# Altium schematic symbol library ComponentsLib.SchLib: 116 symbols (part 2 of 2)
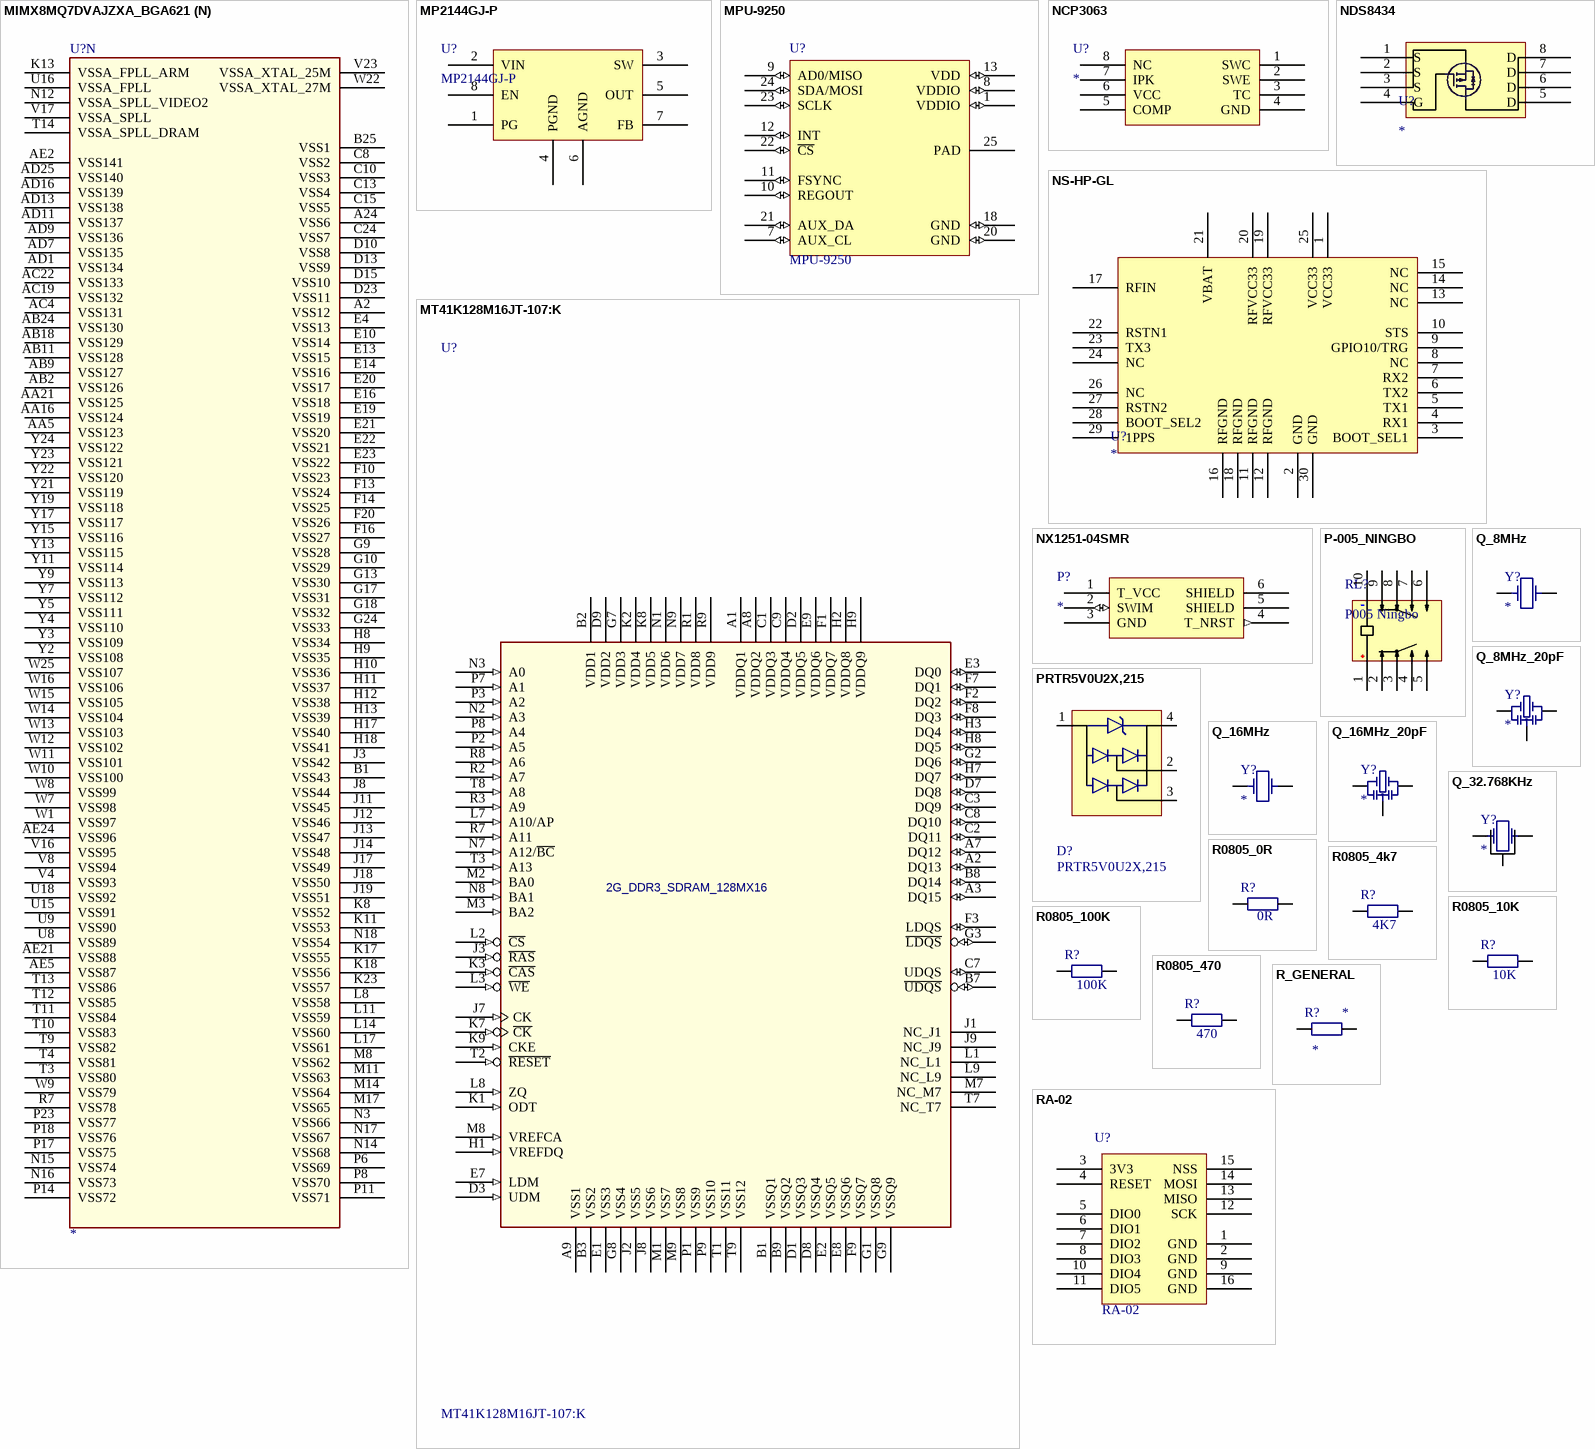
[diagram p12: symbols MIMX8MQ7DVAJZXA_BGA621 to RA-02]

## MP2144GJ-P
designator U?
2A, 5.5V, 1.2MHz, 40μA IQ, COT Synchronous Step Down Switcher; Value: MP2144GJ-P
pins: 1 PG (power), 2 VIN (power), 3 SW (power), 4 PGND (power), 5 OUT (power), 6 AGND (power), 7 FB (power), 8 EN (power)

## MPU-9250
designator U?
SMD Gyroscope/Accelerometer/Magnetometer Sensor; 9-AXIS; MF: TDK; MP: MPU-9250; Package: QFN-24 InvenSense; Price: 7.09 USD; Availability: Good; SnapEDA_Link: https://www.snapeda.com/symbols-footprints/MPU-9250/TDK-Lambda%20Americas%20Inc/view-part/?ref=snap; Value: *
footprint QFN-24/3MM
pins: 1 VDDIO (io), 7 AUX_CL (io), 8 VDDIO (io), 9 AD0/MISO (io), 10 REGOUT (io), 11 FSYNC (io), 12 INT (io), 13 VDD (io), 18 GND (io), 20 GND (io), 21 AUX_DA (io), 22 ~{CS} (io), 23 SCLK (io), 24 SDA/MOSI (io), 25 PAD

## MT41K128M16JT-107:K
designator U?
DRAM Chip DDR3L SDRAM 2G-Bit 128Mx16 1.35V 96-Pin FBGA; MF: Micron Technology; Availability: Unavailable; Package: TFBGA-96 Micron; SnapEDA_Link: https://www.snapeda.com/parts/MT41K128M16JT-107%3AK/Micron%20Technology%20Inc./view-part/?ref=snap; Price: None; MP: MT41K128M16JT-107:K; Value: *
footprint BGA80P96C6X16_800X1400X110_MT41K128M16JT-107:K
pins: A1 VDDQ1 (power), A2 DQ13 (io), A3 DQ15 (io), A7 DQ12 (io), A8 VDDQ2 (power), A9 VSS1 (power), B1 VSSQ1 (power), B2 VDD1 (power), B3 VSS2 (power), B7 ~{UDQS} (io), B8 DQ14 (io), B9 VSSQ2 (power), C1 VDDQ3 (power), C2 DQ11 (io), C3 DQ9 (io), C7 UDQS (io), C8 DQ10 (io), C9 VDDQ4 (power), D1 VSSQ3 (power), D2 VDDQ5 (power), D3 UDM (in), D7 DQ8 (io), D8 VSSQ4 (power), D9 VDD2 (power), E1 VSS3 (power), E2 VSSQ5 (power), E3 DQ0 (io), E7 LDM (in), E8 VSSQ6 (power), E9 VDDQ6 (power), F1 VDDQ7 (power), F2 DQ2 (io), F3 LDQS (io), F7 DQ1 (io), F8 DQ3 (io), F9 VSSQ7 (power), G1 VSSQ8 (power), G2 DQ6 (io), G3 ~{LDQS} (io), G7 VDD3 (power), G8 VSS4 (power), G9 VSSQ9 (power), H1 VREFDQ (in), H2 VDDQ8 (power), H3 DQ4 (io), H7 DQ7 (io), H8 DQ5 (io), H9 VDDQ9 (power), J1 NC_J1, J2 VSS5 (power), J3 ~{RAS} (in), J7 CK (in), J8 VSS6 (power), J9 NC_J9, K1 ODT (in), K2 VDD4 (power), K3 ~{CAS} (in), K7 ~{CK} (in), K8 VDD5 (power), K9 CKE (in), L1 NC_L1, L2 ~{CS} (in), L3 ~{WE} (in), L7 A10/AP (in), L8 ZQ (in), L9 NC_L9, M1 VSS7 (power), M2 BA0 (in), M3 BA2 (in), M7 NC_M7, M8 VREFCA (in), M9 VSS8 (power), N1 VDD6 (power), N2 A3 (in), N3 A0 (in), N7 A12/~{BC} (in), N8 BA1 (in), N9 VDD7 (power), P1 VSS9 (power), P2 A5 (in), P3 A2 (in), P7 A1 (in), P8 A4 (in), P9 VSS10 (power), R1 VDD8 (power), R2 A7 (in), R3 A9 (in), R7 A11 (in), R8 A6 (in), R9 VDD9 (power), T1 VSS11 (power), T2 ~{RESET} (in), T3 A13 (in), T7 NC_T7, T8 A8 (in), T9 VSS12 (power)
text: 2G_DDR3_SDRAM_128MX16

## NCP3063
designator U?
1.5 A, Step-Up/Down/Inverting Switching Regulators
pins: 1 SWC (power) "Internal Darlington switch collector", 2 SWE (power) "Internal Darlington switch emitter", 3 TC (power) "Timing Capacitor", 4 GND (power) "Ground pin for all internal circuits", 5 COMP (power) "Inverting input pin of internal comparator", 6 VCC (power) "Voltage Supply", 7 IPK (power) "Peak Current Sense Input to monitor the voltage drop across an external resistor to limit the peak", 8 NC (power)

## NDS8434
designator U?
footprint SO-8-SOIC127P600X175-8N
pins: 1 S, 2 S, 3 S, 4 G, 5 D, 6 D, 7 D, 8 D

## NS-HP-GL
designator U?
NS-HP-GL / S2525F8-GL-RTK in SMD; Owned: 2
footprint SKYTRAQ-MOD-PCB (SkyTraq module S2525-F8-GL/NS-HP-GL[-5/-10])
footprint SKYTRAQ-MOD-BREAD (SkyTraq module S2525-F8-GL/NS-HP-GL[-5/-10])
footprint SKYTRAQ-MOD-COMB (SkyTraq module S2525-F8-GL/NS-HP-GL[-5/-10])
pins: 1 VCC33, 2 GND, 3 BOOT_SEL1, 4 RX1, 5 TX1, 6 TX2, 7 RX2, 8 NC, 9 GPIO10/TRG, 10 STS, 11 RFGND, 12 RFGND, 13 NC, 14 NC, 15 NC, 16 RFGND, 17 RFIN, 18 RFGND, 19 RFVCC33, 20 RFVCC33, 21 VBAT, 22 RSTN1, 23 TX3, 24 NC, 25 VCC33, 26 NC, 27 RSTN2, 28 BOOT_SEL2, 29 1PPS, 30 GND

## NX1251-04SMR
designator P?
Kosmodrom: http://www.kosmodrom.com.ua/el.php?name=NX1251-04SMR; PriceKosmodromUAH: 5.5
footprint NX1251-04SMR
pins: 1 T_VCC (power), 2 SWIM (io), 3 GND, 4 T_NRST (out), 5 SHIELD, 6 SHIELD

## P-005_NINGBO
designator RL?, comment P005 Ningbo
footprint P-5_NINGBO
pins: 1 +, 2, 3, 4, 5, 6, 7, 8, 9, 10

## PRTR5V0U2X,215
designator D?
PRTR5V0U2X - Ultra low capacitance double rail-to-rail ESD protection diode; MF: Nexperia USA; Owned: 10; Package: SOT-143 Nexperia; Price: None; Availability: Unavailable; MP: PRTR5V0U2X,215; SnapEDA_Link: https://www.snapeda.com/parts/PRTR5V0U2X%2C215/Nexperia%20USA%20Inc./view-part/?ref=snap; Value: *; PriceKosmodromUAH: 3,25; Kosmodrom: http://www.kosmodrom.com.ua/el.php?name=PRTR5V0U2X.215
footprint SOT143B
pins: 1 P$1, 2 P$2, 3 P$3, 4 P$4

## Q_8MHz
designator Y?
Quartz resonator 8MHz; PriceKosmodromUAH: 6; Kosmodrom: http://www.kosmodrom.com.ua/el.php?name=KX-K-8.0-MHz
footprint QSMD12.3x4.5x4.2
pins: 1, 2

## Q_8MHz_20pF
designator Y?
Quartz resonator 8MHz with 20pF caps; PriceKosmodromUAH: 6; Kosmodrom: http://www.kosmodrom.com.ua/el.php?name=KX-K-8.0-MHz
footprint QSMD3.2X1.3X0.9
pins: 1, 2, 3

## Q_16MHz
designator Y?
Quartz resonator 16MHz; PriceKosmodromUAH: 6; Kosmodrom: http://www.kosmodrom.com.ua/el.php?name=KX-K-8.0-MHz
footprint QSMD12.3x4.5x4.2
footprint QTH_HC49_LOW
footprint QSMD6x3.5x1
pins: 1, 2

## Q_16MHz_20pF
designator Y?
Quartz resonator 16MHz with 20pF caps; PriceKosmodromUAH: 6; Kosmodrom: http://www.kosmodrom.com.ua/el.php?name=KX-K-8.0-MHz
footprint QSMD3.2X1.3X0.9
pins: 1, 2, 3

## Q_32.768KHz
designator Y?
Quartz resonator 32.768KHz; PriceKosmodromUAH: 5; Kosmodrom: http://www.kosmodrom.com.ua/el.php?name=KX-38T-32.768-kHz-6pF
footprint HC_3.0x8.0
pins: 1, 2, PAD

## R0805_0R
designator R?, comment 0R
Resistor 0805 0R; Value: 0R
footprint R0805
pins: 1, 2

## R0805_4k7
designator R?, comment 4K7
Resistor 0805 4K7; Value: 4K7
footprint R0805
pins: 1, 2

## R0805_10K
designator R?, comment 10K
Resistor 0805 10K; Value: 10K
footprint R0805
pins: 1, 2

## R0805_100K
designator R?, comment 100K
Resistor 0805 100K; Value: 100K
footprint R0805
pins: 1, 2

## R0805_470
designator R?, comment 470
Resistor 0805 470; Value: 470
footprint R0805
pins: 1, 2

## R_GENERAL
designator R?
Resistor General; Precision: *; Size: *; Resistance: *
footprint R0402
footprint R0402_NOSILK
footprint R0603
footprint R0603_NOSILK
footprint R0805
footprint R1206
footprint R2512
pins: 1, 2

## RA-02
designator U?
RA-02 LoRa modem by Ai-Thinker; Owned: 6; PriceUAH: 127,66; PriceAliexpress: 2,65; OtherUA: https://1wire.com.ua/ra-02-lora-sx1278-433mhz.html; Aliexpress: https://www.aliexpress.com/item/32976593804.html; Value: RA-02
footprint RA-02
pins: 1 GND, 2 GND, 3 3V3, 4 RESET, 5 DIO0, 6 DIO1, 7 DIO2, 8 DIO3, 9 GND, 10 DIO4, 11 DIO5, 12 SCK, 13 MISO, 14 MOSI, 15 NSS, 16 GND

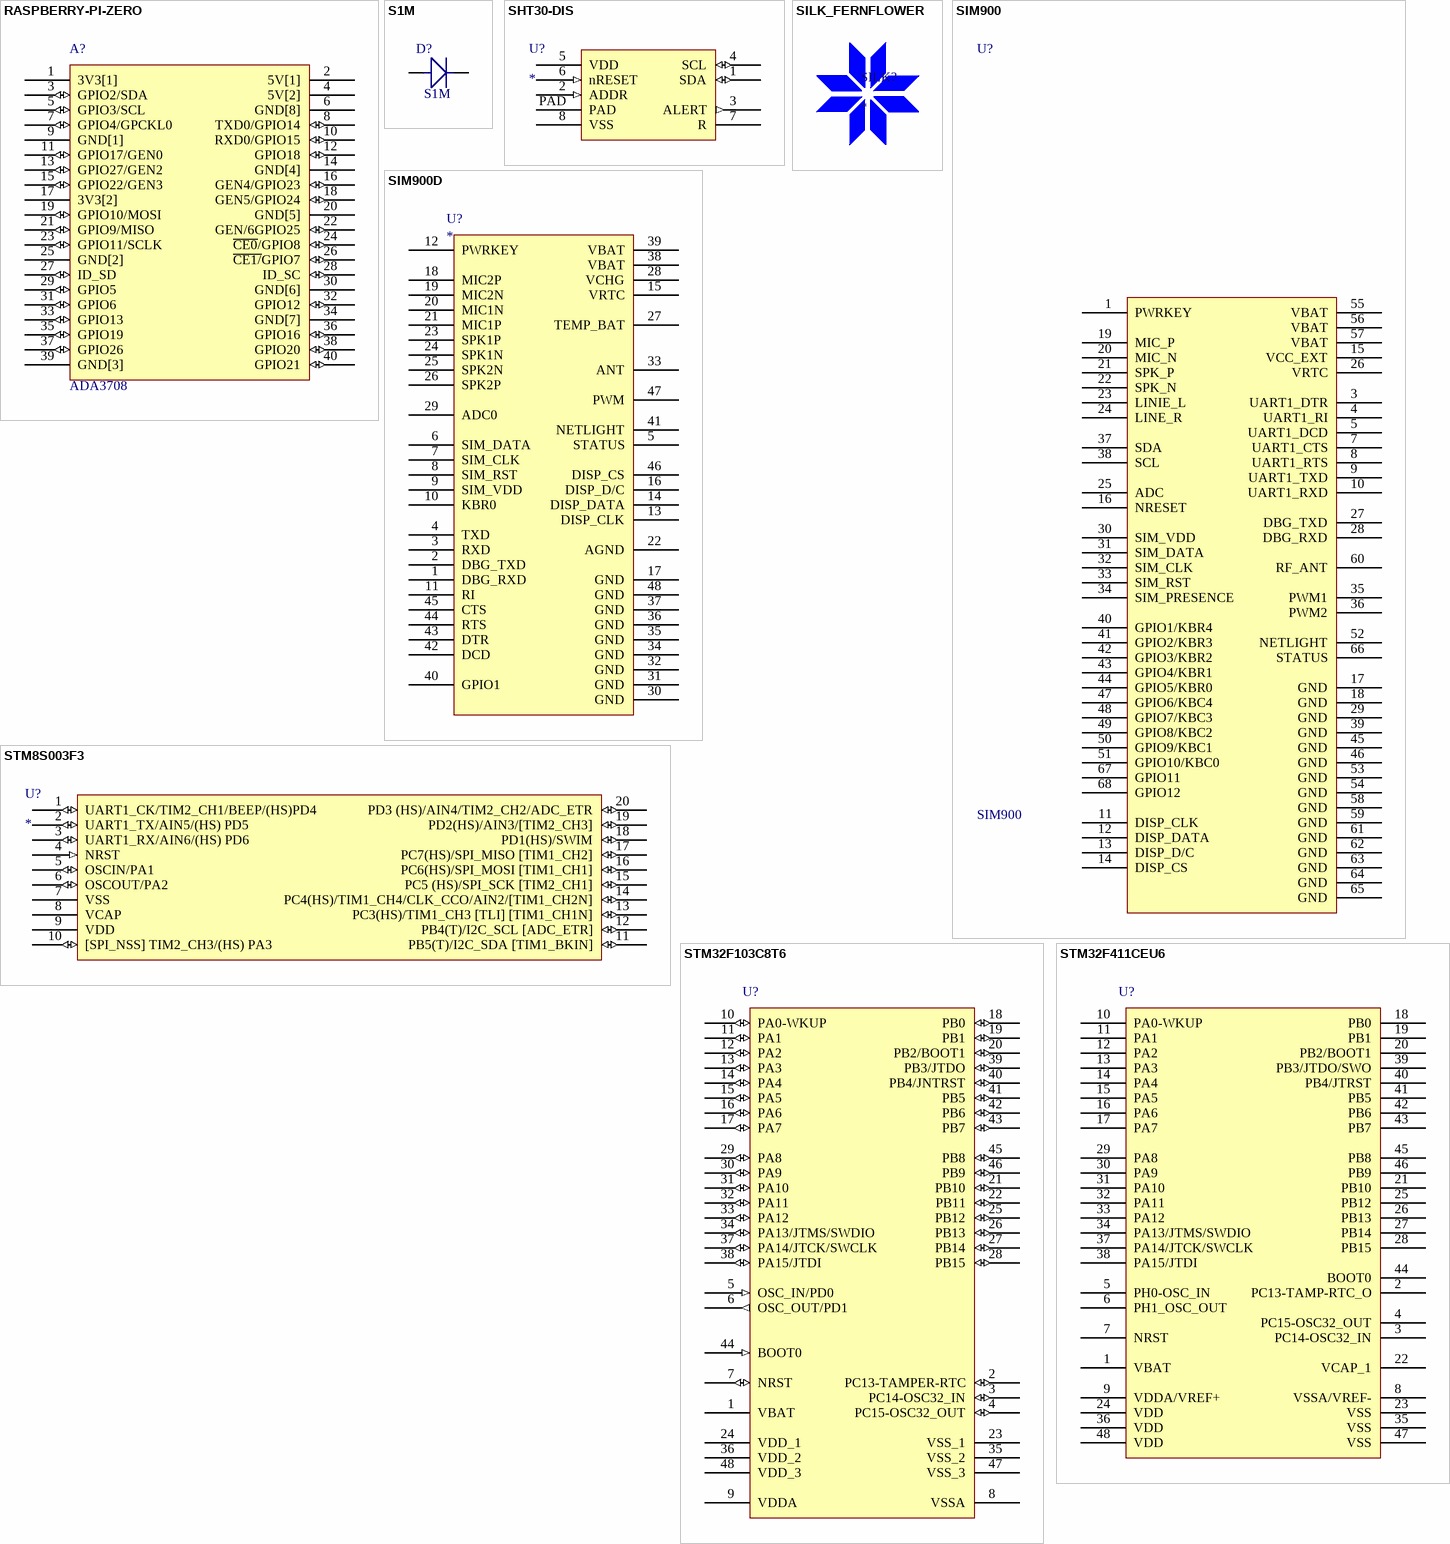
[diagram p10: symbols RASPBERRY-PI-ZERO to STM32F411CEU6]

## RASPBERRY-PI-ZERO
designator A?, comment ADA3708
Raspberry Pi Zero WH _Zero W with Headers_; Availability: Unavailable; Price: None; MP: ADA3708; Package: None; SnapEDA_Link: https://www.snapeda.com/parts/ADA3708/Raspberry%20Pi/view-part/?ref=snap; MF: Raspberry Pi; Value: *
pins: 1 3V3[1] (power), 2 5V[1] (power), 3 GPIO2/SDA (io), 4 5V[2] (power), 5 GPIO3/SCL (io), 6 GND[8] (power), 7 GPIO4/GPCKL0 (io), 8 TXD0/GPIO14 (io), 9 GND[1] (power), 10 RXD0/GPIO15 (io), 11 GPIO17/GEN0 (io), 12 GPIO18 (io), 13 GPIO27/GEN2 (io), 14 GND[4] (power), 15 GPIO22/GEN3 (io), 16 GEN4/GPIO23 (io), 17 3V3[2] (power), 18 GEN5/GPIO24 (io), 19 GPIO10/MOSI (io), 20 GND[5] (power), 21 GPIO9/MISO (io), 22 GEN/6GPIO25 (io), 23 GPIO11/SCLK (io), 24 ~{CE0}/GPIO8 (io), 25 GND[2] (power), 26 ~{CE1/}GPIO7 (io), 27 ID_SD (io), 28 ID_SC (io), 29 GPIO5 (io), 30 GND[6] (power), 31 GPIO6 (io), 32 GPIO12 (io), 33 GPIO13 (io), 34 GND[7] (power), 35 GPIO19 (io), 36 GPIO16 (io), 37 GPIO26 (io), 38 GPIO20 (io), 39 GND[3] (power), 40 GPIO21 (io)

## S1M
designator D?, comment Name: S1M  (hidden comment: General purpuse rectifier diode)
Originally made by Kingtronics; MF: Toshiba; Package: DO-214AC; Price: *; SnapEDA_Link: *; Availability: Good; Value: *; MP: *; PriceRCSUAH: 1; RCS: https://www.rcscomponents.kiev.ua/product/s1m-toshiba_123317.html
footprint DO-214AB
footprint DO-214AC
pins: A POS, C NEG

## SHT30-DIS
designator U?
Temp & Humidity sensor; PriceKosmodromUAH: 75,75; Kosmodrom: http://www.kosmodrom.com.ua/el.php?name=SHT30-DIS-B
footprint SHT3X
pins: 1 SDA (io) "Serial data; input / output", 2 ADDR (in) "Address pin; input; connect to either VDD or VSS, do not leave floating", 3 ALERT (out) "Indicates alarm condition; output; must be left floating if unused", 4 SCL (io) "Serial clock; input / output", 5 VDD (power) "Supply voltage; input", 6 nRESET (in) "Reset pin active low; Input; if not used it is recommended to connect to VDD", 7 R (power) "No electrical function; recommended to connected to VSS", 8 VSS (power) "Ground", PAD (power) "Thermal pad"

## SILK_FERNFLOWER
designator SILK?  (no BOM)
footprint SILK_FERNFLOWER

## SIM900
designator U?
Module: GSM; CSD, GPRS; 2G; 1800MHz, 900MHz; 85.6kbps; I; MF: Simcom; Package: DIP-60 Simcom; Price: None; MP: SIM900; Availability: Unavailable; SnapEDA_Link: https://www.snapeda.com/symbols-footprints/SIM900/Simcom/view-part/?ref=snap; Value: *
footprint SIM-900-QFN100P2400X2400X300-68N
pins: 1 PWRKEY, 3 UART1_DTR, 4 UART1_RI, 5 UART1_DCD, 7 UART1_CTS, 8 UART1_RTS, 9 UART1_TXD, 10 UART1_RXD, 11 DISP_CLK, 12 DISP_DATA, 13 DISP_D/C, 14 DISP_CS, 15 VCC_EXT, 16 NRESET, 17 GND, 18 GND, 19 MIC_P, 20 MIC_N, 21 SPK_P, 22 SPK_N, 23 LINIE_L, 24 LINE_R, 25 ADC, 26 VRTC, 27 DBG_TXD, 28 DBG_RXD, 29 GND, 30 SIM_VDD, 31 SIM_DATA, 32 SIM_CLK, 33 SIM_RST, 34 SIM_PRESENCE, 35 PWM1, 36 PWM2, 37 SDA, 38 SCL, 39 GND, 40 GPIO1/KBR4, 41 GPIO2/KBR3, 42 GPIO3/KBR2, 43 GPIO4/KBR1, 44 GPIO5/KBR0, 45 GND, 46 GND, 47 GPIO6/KBC4, 48 GPIO7/KBC3, 49 GPIO8/KBC2, 50 GPIO9/KBC1, 51 GPIO10/KBC0, 52 NETLIGHT, 53 GND, 54 GND, 55 VBAT, 56 VBAT, 57 VBAT, 58 GND, 59 GND, 60 RF_ANT, 61 GND, 62 GND, 63 GND, 64 GND, 65 GND, 66 STATUS, 67 GPIO11, 68 GPIO12

## SIM900D
designator U?
Module: GSM; CSD, GPRS; 2G; 1800MHz, 900MHz; 85.6kbps; I
pins: 1 DBG_RXD, 2 DBG_TXD, 3 RXD, 4 TXD, 5 STATUS, 6 SIM_DATA, 7 SIM_CLK, 8 SIM_RST, 9 SIM_VDD, 10 KBR0, 11 RI, 12 PWRKEY, 13 DISP_CLK, 14 DISP_DATA, 15 VRTC, 16 DISP_D/C, 17 GND, 18 MIC2P, 19 MIC2N, 20 MIC1N, 21 MIC1P, 22 AGND, 23 SPK1P, 24 SPK1N, 25 SPK2N, 26 SPK2P, 27 TEMP_BAT, 28 VCHG, 29 ADC0, 30 GND, 31 GND, 32 GND, 33 ANT, 34 GND, 35 GND, 36 GND, 37 GND, 38 VBAT, 39 VBAT, 40 GPIO1, 41 NETLIGHT, 42 DCD, 43 DTR, 44 RTS, 45 CTS, 46 DISP_CS, 47 PWM, 48 GND

## STM8S003F3
designator U?
Cheap 8bit MCU
footprint TSSOP20-6.5x4.4-0.65p
footprint UFQFPN20
pins: 1 UART1_CK/TIM2_CH1/BEEP/(HS)PD4 (io), 2 UART1_TX/AIN5/(HS) PD5 (io), 3 UART1_RX/AIN6/(HS) PD6 (io), 4 NRST (in), 5 OSCIN/PA1 (io), 6 OSCOUT/PA2 (io), 7 VSS (power), 8 VCAP (power), 9 VDD (power), 10 [SPI_NSS] TIM2_CH3/(HS) PA3 (io), 11 PB5(T)/I2C_SDA [TIM1_BKIN] (io), 12 PB4(T)/I2C_SCL [ADC_ETR] (io), 13 PC3(HS)/TIM1_CH3 [TLI] [TIM1_CH1N] (io), 14 PC4(HS)/TIM1_CH4/CLK_CCO/AIN2/[TIM1_CH2N] (io), 15 PC5 (HS)/SPI_SCK [TIM2_CH1] (io), 16 PC6(HS)/SPI_MOSI [TIM1_CH1] (io), 17 PC7(HS)/SPI_MISO [TIM1_CH2] (io), 18 PD1(HS)/SWIM (io), 19 PD2(HS)/AIN3/[TIM2_CH3] (io), 20 PD3 (HS)/AIN4/TIM2_CH2/ADC_ETR (io)

## STM32F103C8T6
designator U?
STM32 ARM-based 32-bit MCU with 64 Kbytes Flash, 48-pin LQFP, Industrial Temperature; Published: 30-May-2008; DatasheetVersion: rev6, Mar-2008; PackageVersion: Mar-2008; PackageReference: LQFP48; Publisher: Altium Limited; PackageDescription: 48-Pin Low-Profile Quad Flat Pack, 7 x 7 mm Body, 0.5 mm Pitch (LQFP48); ComponentLink1Description: Manufacturer Link; ComponentLink1URL: www.st.com/stm32; ComponentLink2Description: Datasheet; ComponentLink2URL: http://www.st.com/stonline/products/literature/ds/13587.pdf
footprint LQFP48_N (Thin QFP, 48-Leads, Body 7x7mm, Pitch 0.5mm, IPC Medium Density)
pins: 1 VBAT (power), 2 PC13-TAMPER-RTC (io), 3 PC14-OSC32_IN (io), 4 PC15-OSC32_OUT (io), 5 OSC_IN/PD0 (in), 6 OSC_OUT/PD1 (out), 7 NRST (io), 8 VSSA (power), 9 VDDA (power), 10 PA0-WKUP (io), 11 PA1 (io), 12 PA2 (io), 13 PA3 (io), 14 PA4 (io), 15 PA5 (io), 16 PA6 (io), 17 PA7 (io), 18 PB0 (io), 19 PB1 (io), 20 PB2/BOOT1 (io), 21 PB10 (io), 22 PB11 (io), 23 VSS_1 (power), 24 VDD_1 (power), 25 PB12 (io), 26 PB13 (io), 27 PB14 (io), 28 PB15 (io), 29 PA8 (io), 30 PA9 (io), 31 PA10 (io), 32 PA11 (io), 33 PA12 (io), 34 PA13/JTMS/SWDIO (io), 35 VSS_2 (power), 36 VDD_2 (power), 37 PA14/JTCK/SWCLK (io), 38 PA15/JTDI (io), 39 PB3/JTDO (io), 40 PB4/JNTRST (io), 41 PB5 (io), 42 PB6 (io), 43 PB7 (io), 44 BOOT0 (in), 45 PB8 (io), 46 PB9 (io), 47 VSS_3 (power), 48 VDD_3 (power)

## STM32F411CEU6
designator U?
Cortex-M4 32b MCU+FPU, 125 DMIPS, 512KB Flash,128KB RAM; Published: 30-May-2008; DatasheetVersion: rev6, Mar-2008; PackageVersion: Mar-2008; PackageReference: LQFP48; Publisher: Altium Limited; PackageDescription: 48-Pin Low-Profile Quad Flat Pack, 7 x 7 mm Body, 0.5 mm Pitch (LQFP48); ComponentLink1Description: Manufacturer Link; ComponentLink1URL: www.st.com/stm32; ComponentLink2Description: Datasheet; ComponentLink2URL: http://www.st.com/stonline/products/literature/ds/13587.pdf
footprint QFN50P700X700X60-49N
pins: 1 VBAT (power), 2 PC13-TAMP-RTC_O, 3 PC14-OSC32_IN, 4 PC15-OSC32_OUT, 5 PH0-OSC_IN, 6 PH1_OSC_OUT, 7 NRST, 8 VSSA/VREF- (power), 9 VDDA/VREF+ (power), 10 PA0-WKUP, 11 PA1, 12 PA2, 13 PA3, 14 PA4, 15 PA5, 16 PA6, 17 PA7, 18 PB0, 19 PB1, 20 PB2/BOOT1, 21 PB10, 22 VCAP_1, 23 VSS (power), 24 VDD (power), 25 PB12, 26 PB13, 27 PB14, 28 PB15, 29 PA8, 30 PA9, 31 PA10, 32 PA11, 33 PA12, 34 PA13/JTMS/SWDIO, 35 VSS (power), 36 VDD (power), 37 PA14/JTCK/SWCLK, 38 PA15/JTDI, 39 PB3/JTDO/SWO, 40 PB4/JTRST, 41 PB5, 42 PB6, 43 PB7, 44 BOOT0, 45 PB8, 46 PB9, 47 VSS (power), 48 VDD (power)

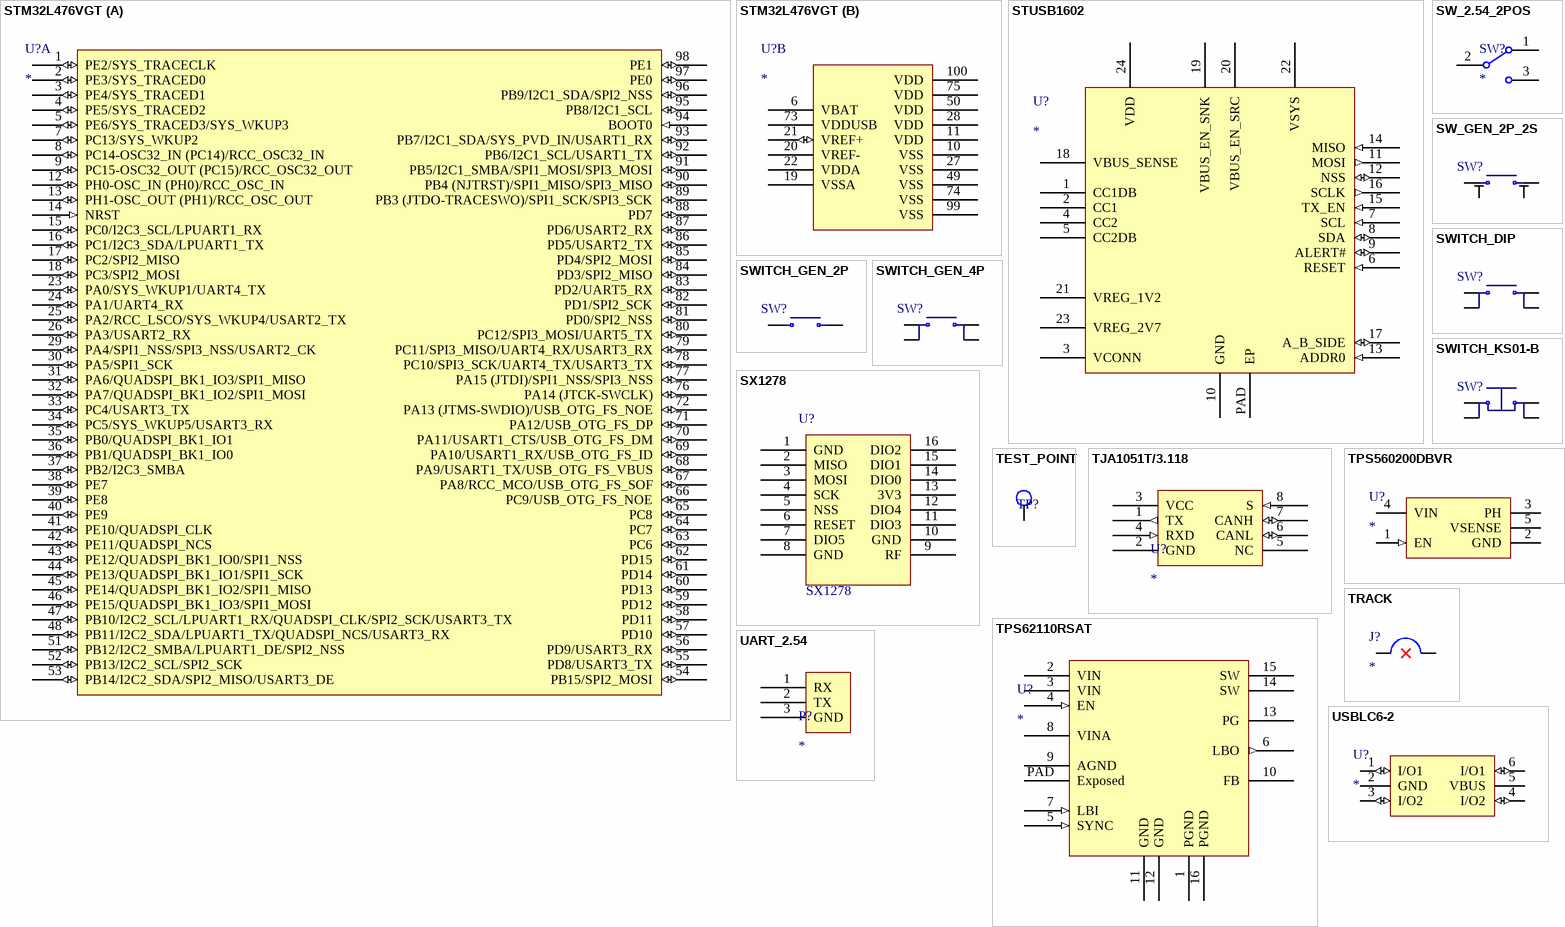
[diagram p11: symbols STM32L476VGT to USBLC6-2]

## STM32L476VGT
designator U?
Ultra-low-power Cortex-M4 32-bit MCU+FPU, 100DMIPS, up to 1MB Flash, 128 KB SRAM, USB OTG FS, LCD; Owned: 6; PriceUAH: 253,84; OtherUA: https://step-elektronika.prom.ua/p499466797-mikrokontroller-shirokogo-naznacheniya.html
footprint LQFP100_0.5
part A pins: 1 PE2/SYS_TRACECLK (io), 2 PE3/SYS_TRACED0 (io), 3 PE4/SYS_TRACED1 (io), 4 PE5/SYS_TRACED2 (io), 5 PE6/SYS_TRACED3/SYS_WKUP3 (io), 7 PC13/SYS_WKUP2 (io), 8 PC14-OSC32_IN (PC14)/RCC_OSC32_IN (io), 9 PC15-OSC32_OUT (PC15)/RCC_OSC32_OUT (io), 12 PH0-OSC_IN (PH0)/RCC_OSC_IN (io), 13 PH1-OSC_OUT (PH1)/RCC_OSC_OUT (io), 14 NRST (in), 15 PC0/I2C3_SCL/LPUART1_RX (io), 16 PC1/I2C3_SDA/LPUART1_TX (io), 17 PC2/SPI2_MISO (io), 18 PC3/SPI2_MOSI (io), 23 PA0/SYS_WKUP1/UART4_TX (io), 24 PA1/UART4_RX (io), 25 PA2/RCC_LSCO/SYS_WKUP4/USART2_TX (io), 26 PA3/USART2_RX (io), 29 PA4/SPI1_NSS/SPI3_NSS/USART2_CK (io), 30 PA5/SPI1_SCK (io), 31 PA6/QUADSPI_BK1_IO3/SPI1_MISO (io), 32 PA7/QUADSPI_BK1_IO2/SPI1_MOSI (io), 33 PC4/USART3_TX (io), 34 PC5/SYS_WKUP5/USART3_RX (io), 35 PB0/QUADSPI_BK1_IO1 (io), 36 PB1/QUADSPI_BK1_IO0 (io), 37 PB2/I2C3_SMBA (io), 38 PE7 (io), 39 PE8 (io), 40 PE9 (io), 41 PE10/QUADSPI_CLK (io), 42 PE11/QUADSPI_NCS (io), 43 PE12/QUADSPI_BK1_IO0/SPI1_NSS (io), 44 PE13/QUADSPI_BK1_IO1/SPI1_SCK (io), 45 PE14/QUADSPI_BK1_IO2/SPI1_MISO (io), 46 PE15/QUADSPI_BK1_IO3/SPI1_MOSI (io), 47 PB10/I2C2_SCL/LPUART1_RX/QUADSPI_CLK/SPI2_SCK/USART3_TX (io), 48 PB11/I2C2_SDA/LPUART1_TX/QUADSPI_NCS/USART3_RX (io), 51 PB12/I2C2_SMBA/LPUART1_DE/SPI2_NSS (io), 52 PB13/I2C2_SCL/SPI2_SCK (io), 53 PB14/I2C2_SDA/SPI2_MISO/USART3_DE (io), 54 PB15/SPI2_MOSI (io), 55 PD8/USART3_TX (io), 56 PD9/USART3_RX (io), 57 PD10 (io), 58 PD11 (io), 59 PD12 (io), 60 PD13 (io), 61 PD14 (io), 62 PD15 (io), 63 PC6 (io), 64 PC7 (io), 65 PC8 (io), 66 PC9/USB_OTG_FS_NOE (io), 67 PA8/RCC_MCO/USB_OTG_FS_SOF (io), 68 PA9/USART1_TX/USB_OTG_FS_VBUS (io), 69 PA10/USART1_RX/USB_OTG_FS_ID (io), 70 PA11/USART1_CTS/USB_OTG_FS_DM (io), 71 PA12/USB_OTG_FS_DP (io), 72 PA13 (JTMS-SWDIO)/USB_OTG_FS_NOE (io), 76 PA14 (JTCK-SWCLK) (io), 77 PA15 (JTDI)/SPI1_NSS/SPI3_NSS (io), 78 PC10/SPI3_SCK/UART4_TX/USART3_TX (io), 79 PC11/SPI3_MISO/UART4_RX/USART3_RX (io), 80 PC12/SPI3_MOSI/UART5_TX (io), 81 PD0/SPI2_NSS (io), 82 PD1/SPI2_SCK (io), 83 PD2/UART5_RX (io), 84 PD3/SPI2_MISO (io), 85 PD4/SPI2_MOSI (io), 86 PD5/USART2_TX (io), 87 PD6/USART2_RX (io), 88 PD7 (io), 89 PB3 (JTDO-TRACESWO)/SPI1_SCK/SPI3_SCK (io), 90 PB4 (NJTRST)/SPI1_MISO/SPI3_MISO (io), 91 PB5/I2C1_SMBA/SPI1_MOSI/SPI3_MOSI (io), 92 PB6/I2C1_SCL/USART1_TX (io), 93 PB7/I2C1_SDA/SYS_PVD_IN/USART1_RX (io), 94 BOOT0 (in), 95 PB8/I2C1_SCL (io), 96 PB9/I2C1_SDA/SPI2_NSS (io), 97 PE0 (io), 98 PE1 (io)
part B pins: 6 VBAT (power), 10 VSS (power), 11 VDD (power), 19 VSSA (power), 20 VREF- (power), 21 VREF+ (io), 22 VDDA (power), 27 VSS (power), 28 VDD (power), 49 VSS (power), 50 VDD (power), 73 VDDUSB (power), 74 VSS (power), 75 VDD (power), 99 VSS (power), 100 VDD (power)

## STUSB1602
designator U?
USB Type-C controller with TX/RX line driver and BMC; PriceRCSUAH: 45; RCS: https://www.rcscomponents.kiev.ua/product/stusb1602aqtr_132330.html
footprint QFN24-4x4x0.9
pins: 1 CC1DB (power), 2 CC1 (power), 3 VCONN (power), 4 CC2 (power), 5 CC2DB (power), 6 RESET (in), 7 SCL (in), 8 SDA (io), 9 ALERT# (io), 10 GND (power), 11 MOSI (out), 12 NSS (io), 13 ADDR0 (in), 14 MISO (in), 15 TX_EN (in), 16 SCLK (out), 17 A_B_SIDE (io), 18 VBUS_SENSE (power), 19 VBUS_EN_SNK (power), 20 VBUS_EN_SRC (power), 21 VREG_1V2 (power), 22 VSYS (power), 23 VREG_2V7 (power), 24 VDD (power), PAD EP (power)

## SW_2.54_2POS
designator SW?
Generich 2 pos switch
footprint SW_1x3 2.54
pins: 1, 2, 3

## SW_GEN_2P_2S
designator SW?  (value not drawn)
SWITCH DIP 4.3 mm, 2 shield pins
footprint SW_3x4x2
footprint SW_GENERIC-SIDE
pins: 1, 2, SHIELD 3, SHIELD 4

## SWITCH_DIP
designator SW?  (value not drawn)
SWITCH DIP 4.3 mm
footprint SW_GENERIC
pins: 1, 2, 3, 4

## SWITCH_GEN_2P
designator SW?  (value not drawn)
SWITCH DIP 4.3 mm; PriceKosmodromUAH: 1,25; Kosmodrom: http://www.kosmodrom.com.ua/el.php?name=TACT-35N-F
footprint SW_3x4x2
footprint SW_TACTM-35N-F
pins: 1, 2

## SWITCH_GEN_4P
designator SW?  (value not drawn)
SWITCH DIP 4.3 mm; PriceKosmodromUAH: 0,5; Kosmodrom: http://www.kosmodrom.com.ua/el.php?name=TACT-5X5X1.5
footprint SW_GENERIC
footprint SW_4x4x1.5
footprint SW_3x4x2
pins: 1, 2, 3, 4

## SWITCH_KS01-B
designator SW?  (value not drawn)
Tact button h=12.8m d=9mm / Manucafturer: highly-elec.com; RCSPrice: 15; PriceKosmodromUAH: *; Kosmodrom: *; RCS: https://www.rcscomponents.kiev.ua/product/ks01-bv-grey-mikropereklyuchatel_111101.html
footprint KS01-B
pins: 1, 2, 3, 4

## SX1278
designator U?
SX1278 LoRa modem; Owned: 2; Aliexpress: https://www.aliexpress.com/item/32802402060.html; PriceAliexpress: 3,76; Value: SX1278
footprint SX1278
pins: 1 GND, 2 MISO, 3 MOSI, 4 SCK, 5 NSS, 6 RESET, 7 DIO5, 8 GND, 9 RF, 10 GND, 11 DIO3, 12 DIO4, 13 3V3, 14 DIO0, 15 DIO1, 16 DIO2

## TEST_POINT
designator TP?  (value not drawn)  (no BOM)
footprint TP_1mm
footprint THOOK_0.8-1
pins: 1

## TJA1051T/3.118
designator U?
footprint SOIC127P600X175-8N
pins: 1 TX (out), 2 GND (power), 3 VCC (power), 4 RXD (in), 5 NC, 6 CANL (io), 7 CANH (io), 8 S (in)

## TPS62110RSAT
designator U?
TPS6211x 17-V, 1.5-A, Synchronous Step-Down Converter; PriceKosmodromUAH: 64; Kosmodrom: http://www.kosmodrom.com.ua/el.php?name=TPS62110RSAT
footprint VQFN-16
pins: 1 PGND (power) "Power ground. Connect all power grounds to this pin.", 2 VIN (power) "InputSupply voltage input (power stage)", 3 VIN (power) "InputSupply voltage input (power stage)", 4 EN (in) "Enable. A logic high enables the converter; logic low forces the device into shutdown mode reducing the supply current to less than 2 μA. Do not leave floating. Feedback pin for the fixed output voltage versions. Connect to VOUT for these devices. For the", 5 SYNC (in) "Input for synchronization to external clock signal. Synchronizes the converter switching frequency to an external clock signal with CMOS level. Also controls power save mode by being tied high or low. SYNC = HIGH: Low-noise mode enabled, fixed-frequency PWM operation is forced; SYNC = LOW (GND): Power save mode enabled, PFM/PWM mode enabled", 6 LBO (out) "Open-drain, low-battery output. This pin is pulled low if LBI is below its threshold. If not used, the pin may be left floating or connected to GND. Power good comparator output. This is an open-drain output. A pullup resistor should be connected", 7 LBI (in) "Low-battery input. Do not leave floating.", 8 VINA (power) "Supply voltage input (support circuits)", 9 AGND (power) "Analog ground, connect to GND and PGND.", 10 FB (power) "adjustable versions, an external resistive divider is connected to this pin. The internal voltage divider is disabled for the adjustable versions.", 11 GND (power) "Ground", 12 GND (power) "Ground", 13 PG (power) "between PG and VOUT. The output goes high when the output voltage is greater than 98.4% of the nominal value. If not used, the pin may be left floating or connected to GND.", 14 SW (power) "Connect the inductor to this pin. This pin is the switch pin and connected to the drain of the internal power MOSFETS.", 15 SW (power) "Same as for 14", 16 PGND (power) "Power ground. Connect all power grounds to this pin.", PAD Exposed (power) "Connect to AGND. Must be soldered to achieve appropriate power dissipation and mechanical Thermal Pad reliability."

## TPS560200DBVR
designator U?
TPS560200 4.5-V to 17-V Input, 500-mA Synchronous Step-Down Converter With Advanced Eco-Mode™; PriceKosmodromUAH: 6,75; Kosmodrom: http://www.kosmodrom.com.ua/el.php?name=TPS560200DBVR
footprint SOT-23-5
pins: 1 EN (in) "Enable pin. Float to enable", 2 GND (power) "Return for control circuitry and low-side power MOSFET", 3 PH (power) "The switch node", 4 VIN (power) "Supplies the control circuitry of the power converter", 5 VSENSE (power) "Converter feedback input. Connect to output voltage with feedback resistor divider"

## TRACK
designator J?  (no BOM)
An exposed track to cut/solder
footprint TRACK-2x0.5MM
pins: 1, 2

## UART_2.54
designator P?
footprint UART_2.54
pins: 1 RX, 2 TX, 3 GND

## USBLC6-2
designator U?
Very low capacitance ESD protection; PriceKosmodromUAH: 4,25; Kosmodrom: http://www.kosmodrom.com.ua/el.php?name=USBLC6-2P6
footprint SOT-666
pins: 1 I/O1 (io), 2 GND (power), 3 I/O2 (io), 4 I/O2 (io), 5 VBUS (power), 6 I/O1 (io)